# Altium schematic symbol library IC.SchLib: 5 symbols
Pins are listed as number, name and electrical type; pins without a type are passive.

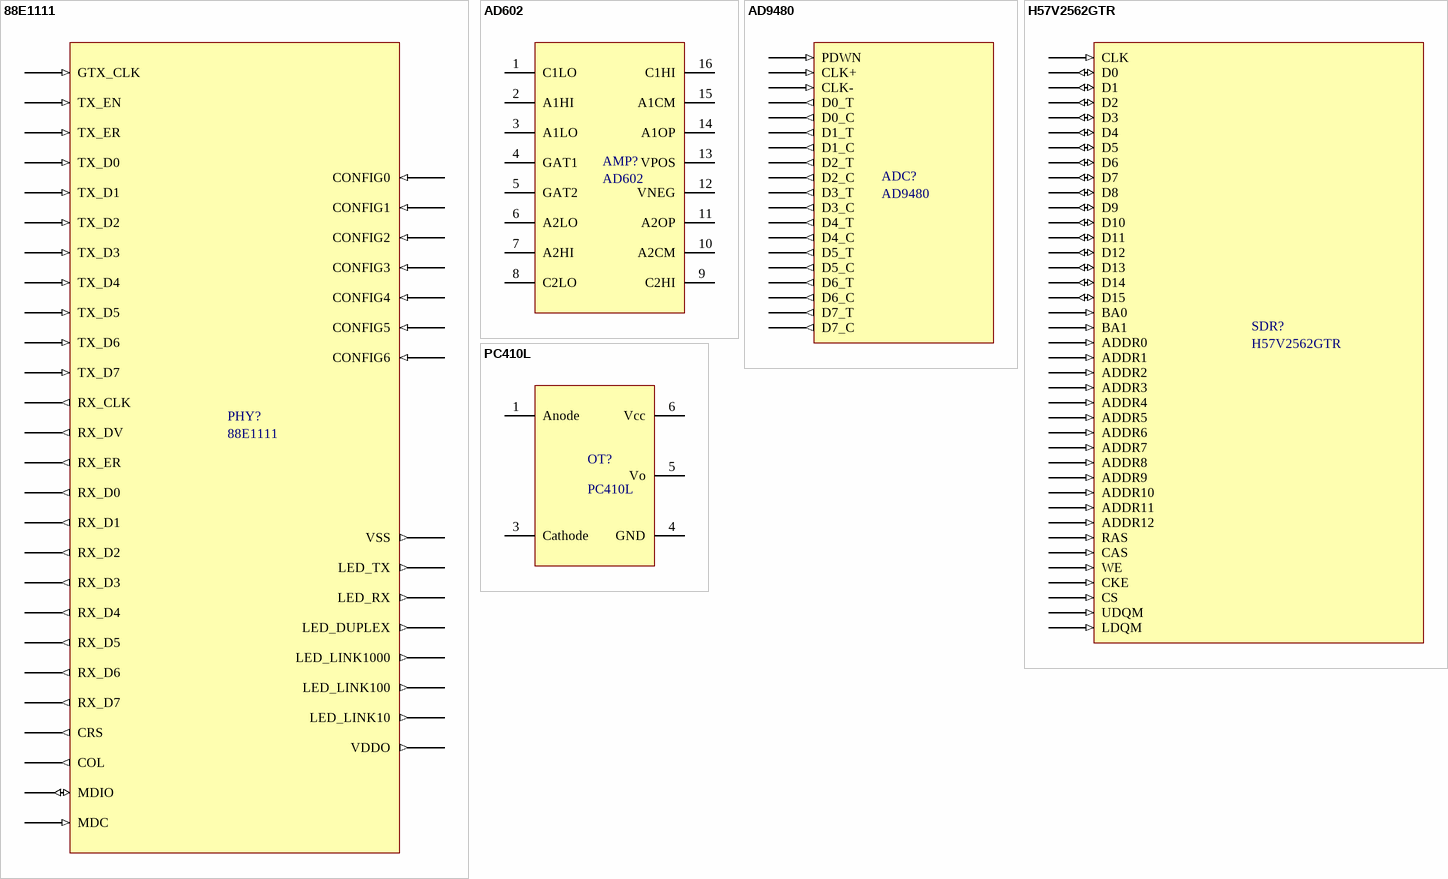
[diagram p0: symbols 88E1111 to PC410L]

## 88E1111
designator PHY?
Ethernet PHY
pins: ?1 GTX_CLK (in), ?2 TX_EN (in), ?3 TX_ER (in), ?4 TX_D0 (in), ?5 TX_D1 (in), ?6 TX_D2 (in), ?7 TX_D3 (in), ?8 TX_D4 (in), ?9 TX_D5 (in), ?10 TX_D6 (in), ?11 TX_D7 (in), ?12 RX_CLK (out), ?13 RX_DV (out), ?14 RX_ER (out), ?15 RX_D0 (out), ?16 RX_D1 (out), ?17 RX_D2 (out), ?18 RX_D3 (out), ?19 RX_D4 (out), ?20 RX_D5 (out), ?21 RX_D6 (out), ?22 RX_D7 (out), ?23 CRS (out), ?24 COL (out), ?25 MDIO (io), ?26 MDC (in), ?27 CONFIG0 (in), ?28 CONFIG1 (in), ?29 CONFIG2 (in), ?30 CONFIG3 (in), ?31 CONFIG4 (in), ?32 CONFIG5 (in), ?33 CONFIG6 (in), ?34 VSS (out), ?35 LED_TX (out), ?36 LED_RX (out), ?37 LED_DUPLEX (out), ?38 LED_LINK1000 (out), ?39 LED_LINK100 (out), ?40 LED_LINK10 (out), ?41 VDDO (out)

## AD602
designator AMP?
footprint SOP16
pins: 1 C1LO, 2 A1HI, 3 A1LO, 4 GAT1, 5 GAT2, 6 A2LO, 7 A2HI, 8 C2LO, 9 C2HI, 10 A2CM, 11 A2OP, 12 VNEG, 13 VPOS, 14 A1OP, 15 A1CM, 16 C1HI

## AD9480
designator ADC?
ADC
pins: ?1 CLK+ (in), ?2 CLK- (in), ?3 PDWN (in), ?4 D0_C (out), ?5 D1_C (out), ?6 D1_T (out), ?7 D2_C (out), ?8 D0_T (out), ?9 D2_T (out), ?10 D3_C (out), ?11 D4_C (out), ?12 D4_T (out), ?13 D5_C (out), ?14 D5_T (out), ?15 D3_T (out), ?16 D6_T (out), ?17 D6_C (out), ?18 D7_T (out), ?19 D7_C (out)

## H57V2562GTR
designator SDR?
pins: ?1 CLK (in), ?2 D1 (io), ?3 D3 (io), ?4 D5 (io), ?5 D7 (io), ?6 D9 (io), ?7 D11 (io), ?8 D13 (io), ?9 D15 (io), ?10 D0 (io), ?11 D2 (io), ?12 D4 (io), ?13 D6 (io), ?14 D8 (io), ?15 D10 (io), ?16 D12 (io), ?17 D14 (io), ?18 BA0 (in), ?19 BA1 (in), ?20 ADDR0 (in), ?21 ADDR2 (in), ?22 ADDR4 (in), ?23 ADDR6 (in), ?24 ADDR8 (in), ?25 ADDR10 (in), ?26 ADDR12 (in), ?27 RAS (in), ?28 ADDR1 (in), ?29 ADDR3 (in), ?30 ADDR5 (in), ?31 ADDR7 (in), ?32 ADDR9 (in), ?33 ADDR11 (in), ?34 CAS (in), ?35 WE (in), ?36 CKE (in), ?37 CS (in), ?38 UDQM (in), ?39 LDQM (in)

## PC410L
designator OT?
Optical Transistor
footprint SOP5
pins: 1 Anode, 3 Cathode, 4 GND, 5 Vo, 6 Vcc